# Altium schematic symbol library SCH - POWER - LINEAR VREG - ST LD39200DPUR.SchLib: 1 symbol
Pins are listed as number, name and electrical type; pins without a type are passive.

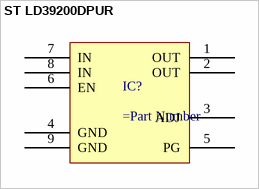
[diagram p0: symbol ST LD39200DPUR]

## ST LD39200DPUR
designator IC?
pins: 1 OUT, 2 OUT, 3 ADJ, 4 GND, 5 PG, 6 EN, 7 IN, 8 IN, 9 GND